# Altium schematic symbol library Fet.SchLib: 3 symbols
Pins are listed as number, name and electrical type; pins without a type are passive.

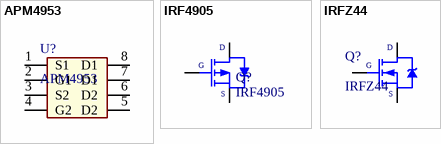
[diagram p0: symbols APM4953 to IRFZ44]

## APM4953
designator U?
MOSFET P-Channel.; Ten_Linh_Kien: APM4953 4953 SOP8 P-2CH 3A 30V MOSFET; Don_Vi: Con; Chung_Loai: Dán; Ghi_Chu: *; Kieu_Chan: *
footprint SOIC8_APM4953 (SOIC)
pins: 1 S1, 2 G1, 3 S2, 4 G2, 5 D2, 6 D2, 7 D1, 8 D1

## IRF4905
designator Q?
IRF4905PBF, MOSFET P-Channel, 55V 74A ,TO-220AB; Note: Pin 2 is electrically connected to pin 4.; Published: 8-Jun-2000; LatestRevisionDate: 17-Jul-2002; LatestRevisionNote: Re-released for DXP Platform.; DatasheetVersion: PD-9.421C; PackageVersion: Feb-1997; PackageReference: TO-220AB; Publisher: Altium Limited; PackageDescription: TO, Thru-Hole, Vertical, Heatsink Mounted; 3 In-Line Leads; Pitch 2.54 mm; ComponentLink1Description: Manufacturer Link; ComponentLink1URL: http://www.irf.com/; ComponentLink2Description: Datasheet; ComponentLink2URL: http://www.irf.com/product-info/datasheets/data/irf9540.pdf
footprint TO220 (TO-220)
pins: 1 G, 2 D, 3 S

## IRFZ44
designator Q?
TO-220,  MOSFET N-Channel
footprint TO220 (TO-220)
pins: 1 G, 2 D, 3 S